# EAGLE library part 431153015826 (library Eagle_Wuerth_Elektronik_Switch)
WS-TSS-5x5 mm J-Bend SMD Tact Switch with ground terminal, 4 pins
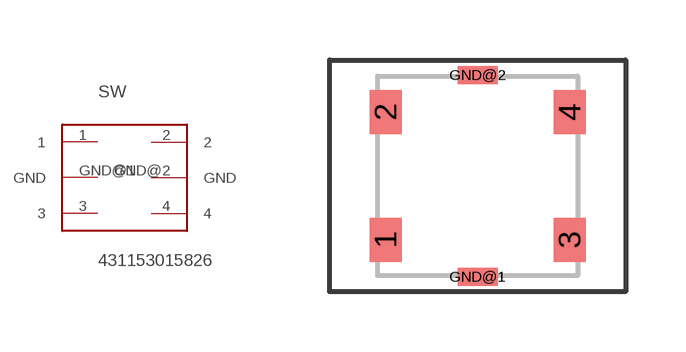
[diagram p141: symbol with the pads of 431153015826; footprint 431153015826]

Designator prefix SW

## 431153015826  [431153015826]
1  1
2  2
3  3
4  4
GND@1  GND
GND@2  GND

## Footprint 431153015826 (pad centres in mm)
WS-TSS-5x5 mm J-Bend SMD Tact Switch with ground terminal, 4 pins
smd 0.8 x 1.1: 1 -2.3,-1.6; 2 -2.3,1.6; 3 2.3,-1.6; 4 2.3,1.6
smd 1 x 0.45: GND@1 0,-2.525; GND@2 0,2.525